# EAGLE library part VG32 (library Radicon_connectors)
PCB EUROCARD, 32-pin type C/AC, 5.08 mm
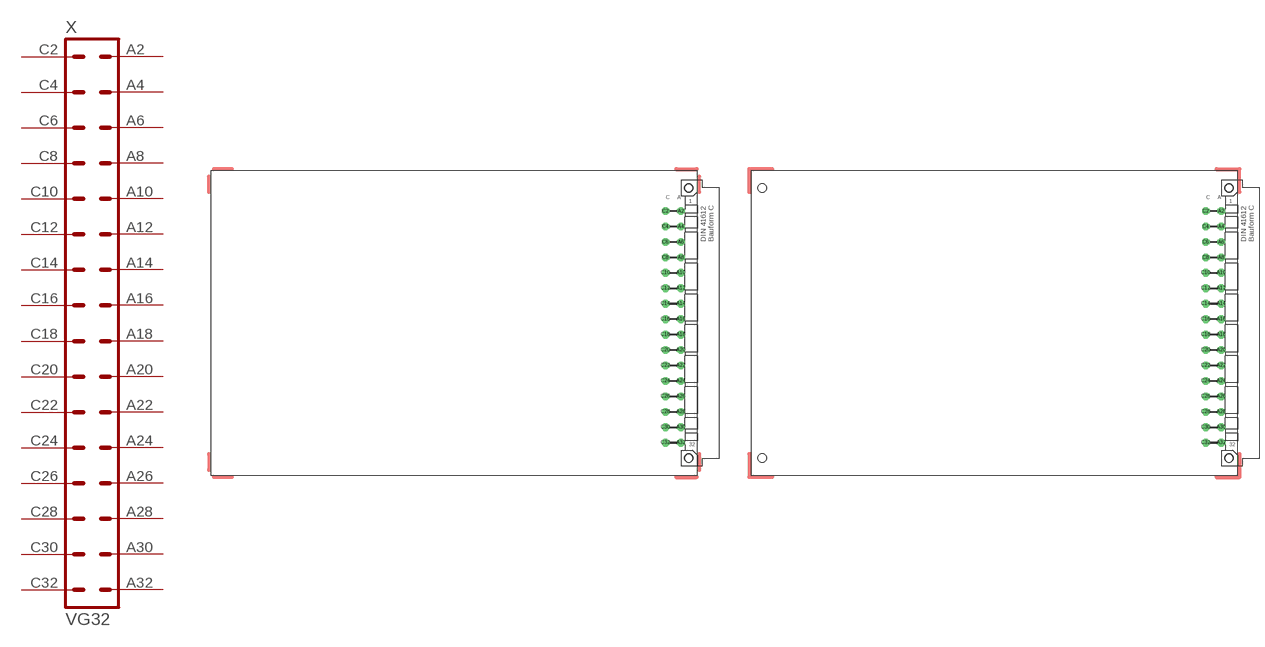
[diagram p12: symbol with the pads of VG32; footprints VG32, VG32B]

Designator prefix X

## VG32  [VG32]
A2  A2  pas
A4  A4  pas
A6  A6  pas
A8  A8  pas
A10  A10  pas
A12  A12  pas
A14  A14  pas
A16  A16  pas
A18  A18  pas
A20  A20  pas
A22  A22  pas
A24  A24  pas
A26  A26  pas
A28  A28  pas
A30  A30  pas
A32  A32  pas
C2  C2  pas
C4  C4  pas
C6  C6  pas
C8  C8  pas
C10  C10  pas
C12  C12  pas
C14  C14  pas
C16  C16  pas
C18  C18  pas
C20  C20  pas
C22  C22  pas
C24  C24  pas
C26  C26  pas
C28  C28  pas
C30  C30  pas
C32  C32  pas

## VG32B  [VG32B]
Pads as for VG32

## VG32K  [VG32K]
Pads as for VG32

## VG32KB  [VG32KB]
Pads as for VG32

## VG32P  [VG32P]
Pads as for VG32

## VG32LONG  [VG32P_LONG]
Pads as for VG32

## VG32+  [VG32+]
Pads as for VG32

## Footprint VG32 (pad centres in mm)
EUROCARD, C/AC, 5.08
drill 1.016 pad 2.54 octagon: A2 154.94,36.83; A4 154.94,31.75; A6 154.94,26.67; A8 154.94,21.59; A10 154.94,16.51; A12 154.94,11.43; A14 154.94,6.35; A16 154.94,1.27; A18 154.94,-3.81; A20 154.94,-8.89; A22 154.94,-13.97; A24 154.94,-19.05; A26 154.94,-24.13; A28 154.94,-29.21; A30 154.94,-34.29; A32 154.94,-39.37; C2 149.86,36.83; C4 149.86,31.75; C6 149.86,26.67; C8 149.86,21.59; C10 149.86,16.51; C12 149.86,11.43; C14 149.86,6.35; C16 149.86,1.27; C18 149.86,-3.81; C20 149.86,-8.89; C22 149.86,-13.97; C24 149.86,-19.05; C26 149.86,-24.13; C28 149.86,-29.21; C30 149.86,-34.29; C32 149.86,-39.37
hole 2.794 at 157.48,44.45
hole 2.794 at 157.48,-44.45

## Footprint VG32B (pad centres in mm)
EUROCARD, 4 mounting holes, C/AC, 5.08
drill 1.016 pad 2.54 octagon: A2 154.94,36.83; A4 154.94,31.75; A6 154.94,26.67; A8 154.94,21.59; A10 154.94,16.51; A12 154.94,11.43; A14 154.94,6.35; A16 154.94,1.27; A18 154.94,-3.81; A20 154.94,-8.89; A22 154.94,-13.97; A24 154.94,-19.05; A26 154.94,-24.13; A28 154.94,-29.21; A30 154.94,-34.29; A32 154.94,-39.37; C2 149.86,36.83; C4 149.86,31.75; C6 149.86,26.67; C8 149.86,21.59; C10 149.86,16.51; C12 149.86,11.43; C14 149.86,6.35; C16 149.86,1.27; C18 149.86,-3.81; C20 149.86,-8.89; C22 149.86,-13.97; C24 149.86,-19.05; C26 149.86,-24.13; C28 149.86,-29.21; C30 149.86,-34.29; C32 149.86,-39.37
hole 2.794 at 157.48,44.45
hole 2.794 at 157.48,-44.45
hole 2.794 at 3.81,-44.45
hole 2.794 at 3.81,44.45

## Footprint VG32K (pad centres in mm)
EUROCARD, 2 mounting holes, C/AC, 5.08
drill 1.016 pad 2.54 octagon: A2 154.94,36.83; A4 154.94,31.75; A6 154.94,26.67; A8 154.94,21.59; A10 154.94,16.51; A12 154.94,11.43; A14 154.94,6.35; A16 154.94,1.27; A18 154.94,-3.81; A20 154.94,-8.89; A22 154.94,-13.97; A24 154.94,-19.05; A26 154.94,-24.13; A28 154.94,-29.21; A30 154.94,-34.29; A32 154.94,-39.37; C2 149.86,36.83; C4 149.86,31.75; C6 149.86,26.67; C8 149.86,21.59; C10 149.86,16.51; C12 149.86,11.43; C14 149.86,6.35; C16 149.86,1.27; C18 149.86,-3.81; C20 149.86,-8.89; C22 149.86,-13.97; C24 149.86,-19.05; C26 149.86,-24.13; C28 149.86,-29.21; C30 149.86,-34.29; C32 149.86,-39.37
hole 2.794 at 157.48,44.45
hole 2.794 at 157.48,-44.45

## Footprint VG32KB (pad centres in mm)
EUROCARD, 4 mounting holes, C/AC, 5.08
drill 1.016 pad 2.54 octagon: A2 154.94,36.83; A4 154.94,31.75; A6 154.94,26.67; A8 154.94,21.59; A10 154.94,16.51; A12 154.94,11.43; A14 154.94,6.35; A16 154.94,1.27; A18 154.94,-3.81; A20 154.94,-8.89; A22 154.94,-13.97; A24 154.94,-19.05; A26 154.94,-24.13; A28 154.94,-29.21; A30 154.94,-34.29; A32 154.94,-39.37; C2 149.86,36.83; C4 149.86,31.75; C6 149.86,26.67; C8 149.86,21.59; C10 149.86,16.51; C12 149.86,11.43; C14 149.86,6.35; C16 149.86,1.27; C18 149.86,-3.81; C20 149.86,-8.89; C22 149.86,-13.97; C24 149.86,-19.05; C26 149.86,-24.13; C28 149.86,-29.21; C30 149.86,-34.29; C32 149.86,-39.37
hole 2.794 at 157.48,44.45
hole 2.794 at 157.48,-44.45
hole 2.794 at 3.81,-44.45
hole 2.794 at 3.81,44.45

## Footprint VG32P (pad centres in mm)
EUROCARD, holder, C/AC, 5.08
drill 1.016 pad 2.54 octagon: A2 154.94,36.83; A4 154.94,31.75; A6 154.94,26.67; A8 154.94,21.59; A10 154.94,16.51; A12 154.94,11.43; A14 154.94,6.35; A16 154.94,1.27; A18 154.94,-3.81; A20 154.94,-8.89; A22 154.94,-13.97; A24 154.94,-19.05; A26 154.94,-24.13; A28 154.94,-29.21; A30 154.94,-34.29; A32 154.94,-39.37; C2 149.86,36.83; C4 149.86,31.75; C6 149.86,26.67; C8 149.86,21.59; C10 149.86,16.51; C12 149.86,11.43; C14 149.86,6.35; C16 149.86,1.27; C18 149.86,-3.81; C20 149.86,-8.89; C22 149.86,-13.97; C24 149.86,-19.05; C26 149.86,-24.13; C28 149.86,-29.21; C30 149.86,-34.29; C32 149.86,-39.37
hole 2.794 at 3.81,44.45
hole 2.794 at 3.81,-44.45
hole 2.794 at 157.48,44.45
hole 2.794 at 157.48,-44.45

## Footprint VG32P_LONG (pad centres in mm)
EUROCARD, holder, C/AC, 5.08
drill 1.016 pad 2.54 octagon: A2 214.694,36.83; A4 214.694,31.75; A6 214.694,26.67; A8 214.694,21.59; A10 214.694,16.51; A12 214.694,11.43; A14 214.694,6.35; A16 214.694,1.27; A18 214.694,-3.81; A20 214.694,-8.89; A22 214.694,-13.97; A24 214.694,-19.05; A26 214.694,-24.13; A28 214.694,-29.21; A30 214.694,-34.29; A32 214.694,-39.37; C2 209.613,36.83; C4 209.613,31.75; C6 209.613,26.67; C8 209.613,21.59; C10 209.613,16.51; C12 209.613,11.43; C14 209.613,6.35; C16 209.613,1.27; C18 209.613,-3.81; C20 209.613,-8.89; C22 209.613,-13.97; C24 209.613,-19.05; C26 209.613,-24.13; C28 209.613,-29.21; C30 209.613,-34.29; C32 209.613,-39.37

## Footprint VG32+ (pad centres in mm)
drill 1.016 pad 2.54 octagon: A2 132.08,36.83; A4 132.08,31.75; A6 132.08,26.67; A8 132.08,21.59; A10 132.08,16.51; A12 132.08,11.43; A14 132.08,6.35; A16 132.08,1.27; A18 132.08,-3.81; A20 132.08,-8.89; A22 132.08,-13.97; A24 132.08,-19.05; A26 132.08,-24.13; A28 132.08,-29.21; A30 132.08,-34.29; A32 132.08,-39.37; C2 127,36.83; C4 127,31.75; C6 127,26.67; C8 127,21.59; C10 127,16.51; C12 127,11.43; C14 127,6.35; C16 127,1.27; C18 127,-3.81; C20 127,-8.89; C22 127,-13.97; C24 127,-19.05; C26 127,-24.13; C28 127,-29.21; C30 127,-34.29; C32 127,-39.37
hole 2.794 at 134.62,44.45
hole 2.794 at 134.62,-44.45